# EAGLE library part 6502C_SALLY (library atari)
Atari 6502 Custom CPU
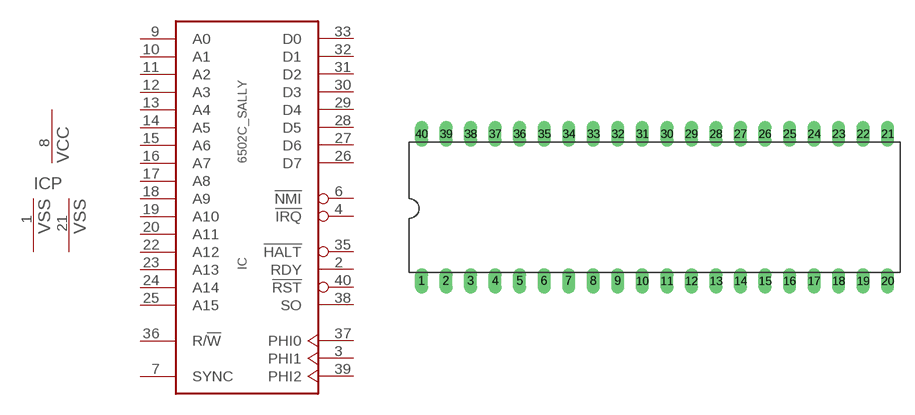
[diagram p6: symbol with the pads of DIL40; footprint DIL40]

Designator prefix IC; gates P=VCCVSSVSS =6502C_SALLY

## 6502C_SALLY  [DIL40]
1  P:VSS  pwr
2  :RDY  in
3  :PHI1  out
4  :!IRQ  in
6  :!NMI  in
7  :SYNC  out
8  P:VCC  pwr
9  :A0  out
10  :A1  out
11  :A2  out
12  :A3  out
13  :A4  out
14  :A5  out
15  :A6  out
16  :A7  out
17  :A8  out
18  :A9  out
19  :A10  out
20  :A11  out
21  P:VSS1  pwr
22  :A12  out
23  :A13  out
24  :A14  out
25  :A15  out
26  :D7
27  :D6
28  :D5
29  :D4
30  :D3
31  :D2
32  :D1
33  :D0
35  :!HALT  in
36  :R/!W  out
37  :PHI0  in
38  :SO  in
39  :PHI2  out
40  :!RST  in

## Footprint DIL40 (pad centres in mm)
drill 0.813 long: 1 -24.13,-7.62; 2 -21.59,-7.62; 3 -19.05,-7.62; 4 -16.51,-7.62; 5 -13.97,-7.62; 6 -11.43,-7.62; 7 -8.89,-7.62; 8 -6.35,-7.62; 9 -3.81,-7.62; 10 -1.27,-7.62; 11 1.27,-7.62; 12 3.81,-7.62; 13 6.35,-7.62; 14 8.89,-7.62; 15 11.43,-7.62; 16 13.97,-7.62; 17 16.51,-7.62; 18 19.05,-7.62; 19 21.59,-7.62; 20 24.13,-7.62; 21 24.13,7.62; 22 21.59,7.62; 23 19.05,7.62; 24 16.51,7.62; 25 13.97,7.62; 26 11.43,7.62; 27 8.89,7.62; 28 6.35,7.62; 29 3.81,7.62; 30 1.27,7.62; 31 -1.27,7.62; 32 -3.81,7.62; 33 -6.35,7.62; 34 -8.89,7.62; 35 -11.43,7.62; 36 -13.97,7.62; 37 -16.51,7.62; 38 -19.05,7.62; 39 -21.59,7.62; 40 -24.13,7.62